# Altium integrated library Analog Devices Interface and Isolation Digital Isolators.IntLib: 645 symbols (part 9 of 36)
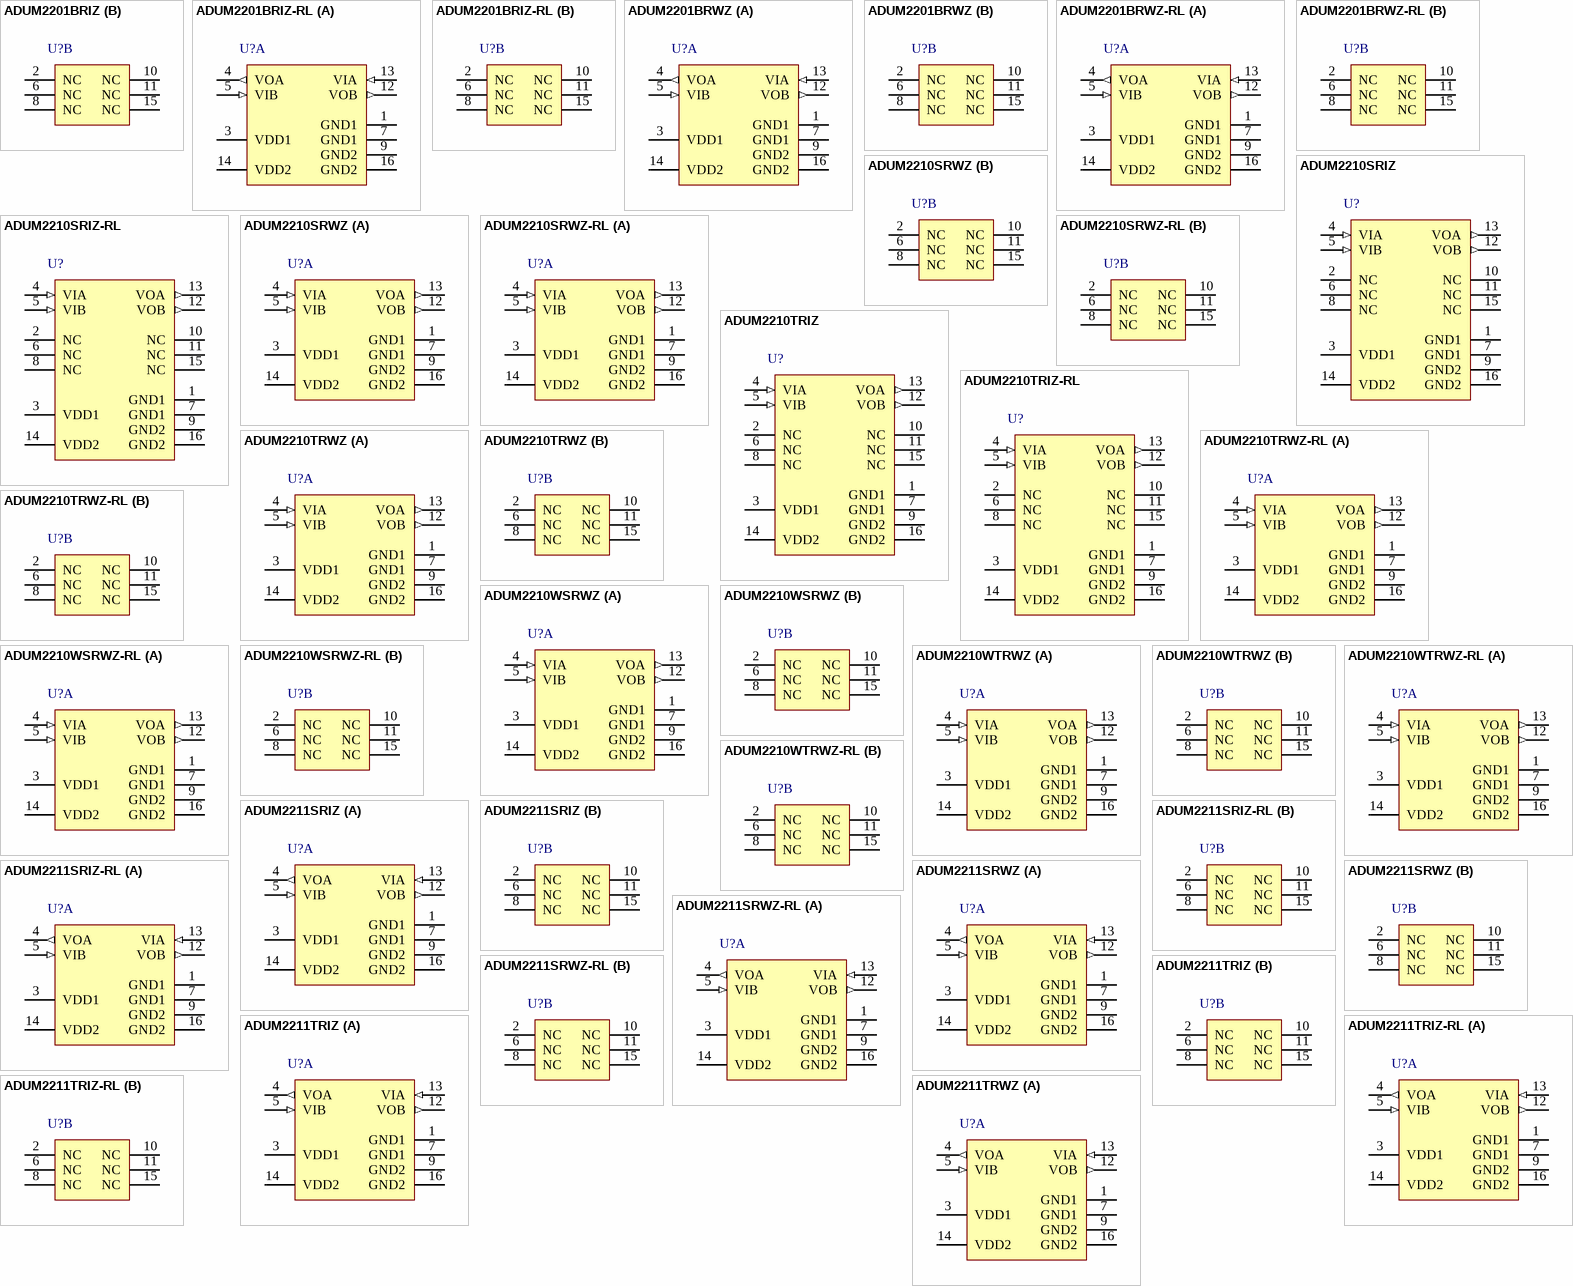
[diagram p28: symbols ADUM2201BRIZ to ADUM2211TRWZ]

## ADUM2201BRIZ-RL
designator U?
Dual Channel Digital Isolator, 5 KV rms Insulation Rating, 10 Mbps Data Rate, 50 ns Delay, Industrial, 16-pin SOIC (RI-16-2), Reel; Manufacturer: Analog Devices; PartNumber: ADUM2201BRIZ-RL; Insulation Rating (kVrms): 5; Max Data Rate: 10Mbps; DatasheetVersion: Rev. D; PackageVersion: 11-15-2011-A, 11/2012; PackageReference: RI-16-2; PackageDescription: 16-Pin Standard Small Outline Package, with Increased Creepage, Body 12.75 x 7.5 mm, Pitch 1.27 mm; Supplier 1: Digi-Key; Supplier Part Number 1: ADUM2201BRIZ-RL-ND; Max Operating Temp (degreesC): 105; Mounting Technology: Surface Mount; Code_JEDEC: MS-013-AC; ComponentLink1Description: Manufacturer URL; ComponentLink1URL: http://www.analog.com/en/index.html; ComponentLink2Description: Datasheet; ComponentLink2URL: http://www.analog.com/static/imported-files/data_sheets/ADuM2200_2201.pdf; ComponentLink3Description: Package Specification; ComponentLink3URL: http://www.analog.com/static/imported-files/data_sheets/ADuM2280_2281_2285_2286.pdf; ComponentLink4Description: URL Link1; ComponentLink4URL: Product URL:http://www.analog.com/en/interface-isolation/digital-isolators/adum2201/products/product.html
footprint ADI-RI-16-2_N (SOIC, 16-Leads, Body 12.75x7.5mm, Pitch 1.27mm, IPC Medium Density)
footprint ADI-RI-16-2_L (SOIC, 16-Leads, Body 12.75x7.5mm, Pitch 1.27mm, IPC High Density)
footprint ADI-RI-16-2_M (SOIC, 16-Leads, Body 12.75x7.5mm, Pitch 1.27mm, IPC Low Density)
part A pins: 1 GND1 (power) "Ground 1. Ground reference for Isolator Side 1.", 3 VDD1 (power) "Supply Voltage for Isolator Side 1.", 4 VOA (out) "Logic Output A.", 5 VIB (in) "Logic Input B.", 7 GND1 (power) "Ground 1. Ground reference for Isolator Side 1.", 9 GND2 (power) "Ground 2. Ground reference for Isolator Side 2.", 12 VOB (out) "Logic Output B.", 13 VIA (in) "Logic Input A.", 14 VDD2 (power) "Supply Voltage for Isolator Side 2.", 16 GND2 (power) "Ground 2. Ground reference for Isolator Side 2."
part B pins: 2 NC "No internal connection.", 6 NC "No internal connection.", 8 NC "No internal connection.", 10 NC "No internal connection.", 11 NC "No internal connection.", 15 NC "No internal connection."

## ADUM2201BRWZ
designator U?
Dual Channel Digital Isolator, 5 KV rms Insulation Rating, 10 Mbps Data Rate, 50 ns Delay, Industrial, 16-pin SOIC (RW-16), Tube; Manufacturer: Analog Devices; PartNumber: ADUM2201BRWZ; Insulation Rating (kVrms): 5; Max Data Rate: 10Mbps; DatasheetVersion: Rev. D; PackageVersion: 032707-B, 03/2007; PackageReference: RW-16; PackageDescription: 16-Pin Standard Small Outline Package, Body 10.3 x 7.5 mm, Pitch 1.27 mm; Supplier 1: Digi-Key; Supplier Part Number 1: ADUM2201BRWZ-ND; Max Operating Temp (degreesC): 105; Mounting Technology: Surface Mount; Code_JEDEC: MS-013-AA; ComponentLink1Description: Manufacturer URL; ComponentLink1URL: http://www.analog.com/en/index.html; ComponentLink2Description: Datasheet; ComponentLink2URL: http://www.analog.com/static/imported-files/data_sheets/ADuM2200_2201.pdf; ComponentLink3Description: Package Specification; ComponentLink3URL: http://www.analog.com/static/imported-files/packages/PKG_PDF/SOIC_WIDE%20%28RW%29/RW_16.pdf; ComponentLink4Description: URL Link1; ComponentLink4URL: Product URL:http://www.analog.com/en/interface-isolation/digital-isolators/adum2201/products/product.html
footprint ADI-RW-16_N (SOIC, 16-Leads, Body 10.3x7.5mm, Pitch 1.27mm, IPC Medium Density)
footprint ADI-RW-16_L (SOIC, 16-Leads, Body 10.3x7.5mm, Pitch 1.27mm, IPC High Density)
footprint ADI-RW-16_M (SOIC, 16-Leads, Body 10.3x7.5mm, Pitch 1.27mm, IPC Low Density)
part A pins: 1 GND1 (power) "Ground 1. Ground reference for Isolator Side 1.", 3 VDD1 (power) "Supply Voltage for Isolator Side 1.", 4 VOA (out) "Logic Output A.", 5 VIB (in) "Logic Input B.", 7 GND1 (power) "Ground 1. Ground reference for Isolator Side 1.", 9 GND2 (power) "Ground 2. Ground reference for Isolator Side 2.", 12 VOB (out) "Logic Output B.", 13 VIA (in) "Logic Input A.", 14 VDD2 (power) "Supply Voltage for Isolator Side 2.", 16 GND2 (power) "Ground 2. Ground reference for Isolator Side 2."
part B pins: 2 NC "No internal connection.", 6 NC "No internal connection.", 8 NC "No internal connection.", 10 NC "No internal connection.", 11 NC "No internal connection.", 15 NC "No internal connection."

## ADUM2201BRWZ-RL
designator U?
Dual Channel Digital Isolator, 5 KV rms Insulation Rating, 10 Mbps Data Rate, 50 ns Delay, Industrial, 16-pin SOIC (RW-16), Reel; Manufacturer: Analog Devices; PartNumber: ADUM2201BRWZ-RL; Insulation Rating (kVrms): 5; Max Data Rate: 10Mbps; DatasheetVersion: Rev. D; PackageVersion: 032707-B, 03/2007; PackageReference: RW-16; PackageDescription: 16-Pin Standard Small Outline Package, Body 10.3 x 7.5 mm, Pitch 1.27 mm; Supplier 1: Digi-Key; Supplier Part Number 1: ADUM2201BRWZ-RL-ND; Max Operating Temp (degreesC): 105; Mounting Technology: Surface Mount; Code_JEDEC: MS-013-AA; ComponentLink1Description: Manufacturer URL; ComponentLink1URL: http://www.analog.com/en/index.html; ComponentLink2Description: Datasheet; ComponentLink2URL: http://www.analog.com/static/imported-files/data_sheets/ADuM2200_2201.pdf; ComponentLink3Description: Package Specification; ComponentLink3URL: http://www.analog.com/static/imported-files/packages/PKG_PDF/SOIC_WIDE%20%28RW%29/RW_16.pdf; ComponentLink4Description: URL Link1; ComponentLink4URL: Product URL:http://www.analog.com/en/interface-isolation/digital-isolators/adum2201/products/product.html
footprint ADI-RW-16_N (SOIC, 16-Leads, Body 10.3x7.5mm, Pitch 1.27mm, IPC Medium Density)
footprint ADI-RW-16_L (SOIC, 16-Leads, Body 10.3x7.5mm, Pitch 1.27mm, IPC High Density)
footprint ADI-RW-16_M (SOIC, 16-Leads, Body 10.3x7.5mm, Pitch 1.27mm, IPC Low Density)
part A pins: 1 GND1 (power) "Ground 1. Ground reference for Isolator Side 1.", 3 VDD1 (power) "Supply Voltage for Isolator Side 1.", 4 VOA (out) "Logic Output A.", 5 VIB (in) "Logic Input B.", 7 GND1 (power) "Ground 1. Ground reference for Isolator Side 1.", 9 GND2 (power) "Ground 2. Ground reference for Isolator Side 2.", 12 VOB (out) "Logic Output B.", 13 VIA (in) "Logic Input A.", 14 VDD2 (power) "Supply Voltage for Isolator Side 2.", 16 GND2 (power) "Ground 2. Ground reference for Isolator Side 2."
part B pins: 2 NC "No internal connection.", 6 NC "No internal connection.", 8 NC "No internal connection.", 10 NC "No internal connection.", 11 NC "No internal connection.", 15 NC "No internal connection."

## ADUM2210SRIZ
designator U?
Dual Channel Digital Isolator, 5 KV rms Insulation Rating, 1 Mbps Data Rate, 150 ns Delay, Military, 16-pin SOIC (RI-16-2), Tube; Manufacturer: Analog Devices; PartNumber: ADUM2210SRIZ; Insulation Rating (kVrms): 5; Max Data Rate: 1Mbps; DatasheetVersion: Rev. D; PackageVersion: 11-15-2011-A, 11/2012; PackageReference: RI-16-2; PackageDescription: 16-Pin Standard Small Outline Package, with Increased Creepage, Body 12.75 x 7.5 mm, Pitch 1.27 mm; Supplier 1: Digi-Key; Supplier Part Number 1: ADUM2210SRIZ-ND; Max Operating Temp (degreesC): 125; Mounting Technology: Surface Mount; Code_JEDEC: MS-013-AC; ComponentLink1Description: Manufacturer URL; ComponentLink1URL: http://www.analog.com/en/index.html; ComponentLink2Description: Datasheet; ComponentLink2URL: http://www.analog.com/static/imported-files/data_sheets/ADuM2210_2211.pdf; ComponentLink3Description: Package Specification; ComponentLink3URL: http://www.analog.com/static/imported-files/data_sheets/ADuM2280_2281_2285_2286.pdf; ComponentLink4Description: URL Link1; ComponentLink4URL: Product URL:http://www.analog.com/en/interface-isolation/digital-isolators/adum2210/products/product.html
footprint ADI-RI-16-2_N (SOIC, 16-Leads, Body 12.75x7.5mm, Pitch 1.27mm, IPC Medium Density)
footprint ADI-RI-16-2_L (SOIC, 16-Leads, Body 12.75x7.5mm, Pitch 1.27mm, IPC High Density)
footprint ADI-RI-16-2_M (SOIC, 16-Leads, Body 12.75x7.5mm, Pitch 1.27mm, IPC Low Density)
pins: 1 GND1 (power) "Ground 1. Ground reference for Isolator Side 1.", 2 NC "No internal connection.", 3 VDD1 (power) "Supply Voltage for Isolator Side 1, 3.0 V to 5.5 V.", 4 VIA (in) "Logic Input A.", 5 VIB (in) "Logic Input B.", 6 NC "No internal connection.", 7 GND1 (power) "Ground 1. Ground reference for Isolator Side 1.", 8 NC "No internal connection.", 9 GND2 (power) "Ground 2. Ground reference for Isolator Side 2.", 10 NC "No internal connection.", 11 NC "No internal connection.", 12 VOB (out) "Logic Output B.", 13 VOA (out) "Logic Output A.", 14 VDD2 (power) "Supply Voltage for Isolator Side 2, 3.0 V to 5.5 V.", 15 NC "No internal connection.", 16 GND2 (power) "Ground 2. Ground reference for Isolator Side 2."

## ADUM2210SRIZ-RL
designator U?
Dual Channel Digital Isolator, 5 KV rms Insulation Rating, 1 Mbps Data Rate, 150 ns Delay, Military, 16-pin SOIC (RI-16-2), Reel; Manufacturer: Analog Devices; PartNumber: ADUM2210SRIZ-RL; Insulation Rating (kVrms): 5; Max Data Rate: 1Mbps; DatasheetVersion: Rev. D; PackageVersion: 11-15-2011-A, 11/2012; PackageReference: RI-16-2; PackageDescription: 16-Pin Standard Small Outline Package, with Increased Creepage, Body 12.75 x 7.5 mm, Pitch 1.27 mm; Supplier 1: Digi-Key; Supplier Part Number 1: ADUM2210SRIZ-RL-ND; Max Operating Temp (degreesC): 125; Mounting Technology: Surface Mount; Code_JEDEC: MS-013-AC; ComponentLink1Description: Manufacturer URL; ComponentLink1URL: http://www.analog.com/en/index.html; ComponentLink2Description: Datasheet; ComponentLink2URL: http://www.analog.com/static/imported-files/data_sheets/ADuM2210_2211.pdf; ComponentLink3Description: Package Specification; ComponentLink3URL: http://www.analog.com/static/imported-files/data_sheets/ADuM2280_2281_2285_2286.pdf; ComponentLink4Description: URL Link1; ComponentLink4URL: Product URL:http://www.analog.com/en/interface-isolation/digital-isolators/adum2210/products/product.html
footprint ADI-RI-16-2_N (SOIC, 16-Leads, Body 12.75x7.5mm, Pitch 1.27mm, IPC Medium Density)
footprint ADI-RI-16-2_L (SOIC, 16-Leads, Body 12.75x7.5mm, Pitch 1.27mm, IPC High Density)
footprint ADI-RI-16-2_M (SOIC, 16-Leads, Body 12.75x7.5mm, Pitch 1.27mm, IPC Low Density)
pins: 1 GND1 (power) "Ground 1. Ground reference for Isolator Side 1.", 2 NC "No internal connection.", 3 VDD1 (power) "Supply Voltage for Isolator Side 1, 3.0 V to 5.5 V.", 4 VIA (in) "Logic Input A.", 5 VIB (in) "Logic Input B.", 6 NC "No internal connection.", 7 GND1 (power) "Ground 1. Ground reference for Isolator Side 1.", 8 NC "No internal connection.", 9 GND2 (power) "Ground 2. Ground reference for Isolator Side 2.", 10 NC "No internal connection.", 11 NC "No internal connection.", 12 VOB (out) "Logic Output B.", 13 VOA (out) "Logic Output A.", 14 VDD2 (power) "Supply Voltage for Isolator Side 2, 3.0 V to 5.5 V.", 15 NC "No internal connection.", 16 GND2 (power) "Ground 2. Ground reference for Isolator Side 2."

## ADUM2210SRWZ
designator U?
Dual Channel Digital Isolator, 5 KV rms Insulation Rating, 1 Mbps Data Rate, 150 ns Delay, Industrial, 16-pin SOIC (RW-16), Tube; Manufacturer: Analog Devices; PartNumber: ADUM2210SRWZ; Insulation Rating (kVrms): 5; Max Data Rate: 1Mbps; DatasheetVersion: Rev. D; PackageVersion: 032707-B, 03/2007; PackageReference: RW-16; PackageDescription: 16-Pin Standard Small Outline Package, Body 10.3 x 7.5 mm, Pitch 1.27 mm; Supplier 1: Digi-Key; Supplier Part Number 1: ADUM2210SRWZ-ND; Max Operating Temp (degreesC): 125; Mounting Technology: Surface Mount; Code_JEDEC: MS-013-AA; ComponentLink1Description: Manufacturer URL; ComponentLink1URL: http://www.analog.com/en/index.html; ComponentLink2Description: Datasheet; ComponentLink2URL: http://www.analog.com/static/imported-files/data_sheets/ADuM2210_2211.pdf; ComponentLink3Description: Package Specification; ComponentLink3URL: http://www.analog.com/static/imported-files/packages/PKG_PDF/SOIC_WIDE%20%28RW%29/RW_16.pdf; ComponentLink4Description: URL Link1; ComponentLink4URL: Product URL:http://www.analog.com/en/interface-isolation/digital-isolators/adum2210/products/product.html
footprint ADI-RW-16_N (SOIC, 16-Leads, Body 10.3x7.5mm, Pitch 1.27mm, IPC Medium Density)
footprint ADI-RW-16_L (SOIC, 16-Leads, Body 10.3x7.5mm, Pitch 1.27mm, IPC High Density)
footprint ADI-RW-16_M (SOIC, 16-Leads, Body 10.3x7.5mm, Pitch 1.27mm, IPC Low Density)
part A pins: 1 GND1 (power) "Ground 1. Ground reference for Isolator Side 1.", 3 VDD1 (power) "Supply Voltage for Isolator Side 1, 3.0 V to 5.5 V.", 4 VIA (in) "Logic Input A.", 5 VIB (in) "Logic Input B.", 7 GND1 (power) "Ground 1. Ground reference for Isolator Side 1.", 9 GND2 (power) "Ground 2. Ground reference for Isolator Side 2.", 12 VOB (out) "Logic Output B.", 13 VOA (out) "Logic Output A.", 14 VDD2 (power) "Supply Voltage for Isolator Side 2, 3.0 V to 5.5 V.", 16 GND2 (power) "Ground 2. Ground reference for Isolator Side 2."
part B pins: 2 NC "No internal connection.", 6 NC "No internal connection.", 8 NC "No internal connection.", 10 NC "No internal connection.", 11 NC "No internal connection.", 15 NC "No internal connection."

## ADUM2210SRWZ-RL
designator U?
Dual Channel Digital Isolator, 5 KV rms Insulation Rating, 1 Mbps Data Rate, 150 ns Delay, Industrial, 16-pin SOIC (RW-16), Reel; Manufacturer: Analog Devices; PartNumber: ADUM2210SRWZ-RL; Insulation Rating (kVrms): 5; Max Data Rate: 1Mbps; DatasheetVersion: Rev. D; PackageVersion: 032707-B, 03/2007; PackageReference: RW-16; PackageDescription: 16-Pin Standard Small Outline Package, Body 10.3 x 7.5 mm, Pitch 1.27 mm; Supplier 1: Digi-Key; Supplier Part Number 1: ADUM2210SRWZ-RL-ND; Max Operating Temp (degreesC): 125; Mounting Technology: Surface Mount; Code_JEDEC: MS-013-AA; ComponentLink1Description: Manufacturer URL; ComponentLink1URL: http://www.analog.com/en/index.html; ComponentLink2Description: Datasheet; ComponentLink2URL: http://www.analog.com/static/imported-files/data_sheets/ADuM2210_2211.pdf; ComponentLink3Description: Package Specification; ComponentLink3URL: http://www.analog.com/static/imported-files/packages/PKG_PDF/SOIC_WIDE%20%28RW%29/RW_16.pdf; ComponentLink4Description: URL Link1; ComponentLink4URL: Product URL:http://www.analog.com/en/interface-isolation/digital-isolators/adum2210/products/product.html
footprint ADI-RW-16_N (SOIC, 16-Leads, Body 10.3x7.5mm, Pitch 1.27mm, IPC Medium Density)
footprint ADI-RW-16_L (SOIC, 16-Leads, Body 10.3x7.5mm, Pitch 1.27mm, IPC High Density)
footprint ADI-RW-16_M (SOIC, 16-Leads, Body 10.3x7.5mm, Pitch 1.27mm, IPC Low Density)
part A pins: 1 GND1 (power) "Ground 1. Ground reference for Isolator Side 1.", 3 VDD1 (power) "Supply Voltage for Isolator Side 1, 3.0 V to 5.5 V.", 4 VIA (in) "Logic Input A.", 5 VIB (in) "Logic Input B.", 7 GND1 (power) "Ground 1. Ground reference for Isolator Side 1.", 9 GND2 (power) "Ground 2. Ground reference for Isolator Side 2.", 12 VOB (out) "Logic Output B.", 13 VOA (out) "Logic Output A.", 14 VDD2 (power) "Supply Voltage for Isolator Side 2, 3.0 V to 5.5 V.", 16 GND2 (power) "Ground 2. Ground reference for Isolator Side 2."
part B pins: 2 NC "No internal connection.", 6 NC "No internal connection.", 8 NC "No internal connection.", 10 NC "No internal connection.", 11 NC "No internal connection.", 15 NC "No internal connection."

## ADUM2210TRIZ
designator U?
Dual Channel Digital Isolator, 5 KV rms Insulation Rating, 10 Mbps Data Rate, 50 ns Delay, Military, 16-pin SOIC (RI-16-2), Tube; Manufacturer: Analog Devices; PartNumber: ADUM2210TRIZ; Insulation Rating (kVrms): 5; Max Data Rate: 10Mbps; DatasheetVersion: Rev. D; PackageVersion: 11-15-2011-A, 11/2012; PackageReference: RI-16-2; PackageDescription: 16-Pin Standard Small Outline Package, with Increased Creepage, Body 12.75 x 7.5 mm, Pitch 1.27 mm; Supplier 1: Digi-Key; Supplier Part Number 1: ADUM2210TRIZ-ND; Max Operating Temp (degreesC): 125; Mounting Technology: Surface Mount; Code_JEDEC: MS-013-AC; ComponentLink1Description: Manufacturer URL; ComponentLink1URL: http://www.analog.com/en/index.html; ComponentLink2Description: Datasheet; ComponentLink2URL: http://www.analog.com/static/imported-files/data_sheets/ADuM2210_2211.pdf; ComponentLink3Description: Package Specification; ComponentLink3URL: http://www.analog.com/static/imported-files/data_sheets/ADuM2280_2281_2285_2286.pdf; ComponentLink4Description: URL Link1; ComponentLink4URL: Product URL:http://www.analog.com/en/interface-isolation/digital-isolators/adum2210/products/product.html
footprint ADI-RI-16-2_N (SOIC, 16-Leads, Body 12.75x7.5mm, Pitch 1.27mm, IPC Medium Density)
footprint ADI-RI-16-2_L (SOIC, 16-Leads, Body 12.75x7.5mm, Pitch 1.27mm, IPC High Density)
footprint ADI-RI-16-2_M (SOIC, 16-Leads, Body 12.75x7.5mm, Pitch 1.27mm, IPC Low Density)
pins: 1 GND1 (power) "Ground 1. Ground reference for Isolator Side 1.", 2 NC "No internal connection.", 3 VDD1 (power) "Supply Voltage for Isolator Side 1, 3.0 V to 5.5 V.", 4 VIA (in) "Logic Input A.", 5 VIB (in) "Logic Input B.", 6 NC "No internal connection.", 7 GND1 (power) "Ground 1. Ground reference for Isolator Side 1.", 8 NC "No internal connection.", 9 GND2 (power) "Ground 2. Ground reference for Isolator Side 2.", 10 NC "No internal connection.", 11 NC "No internal connection.", 12 VOB (out) "Logic Output B.", 13 VOA (out) "Logic Output A.", 14 VDD2 (power) "Supply Voltage for Isolator Side 2, 3.0 V to 5.5 V.", 15 NC "No internal connection.", 16 GND2 (power) "Ground 2. Ground reference for Isolator Side 2."

## ADUM2210TRIZ-RL
designator U?
Dual Channel Digital Isolator, 5 KV rms Insulation Rating, 10 Mbps Data Rate, 50 ns Delay, Military, 16-pin SOIC (RI-16-2), Reel; Manufacturer: Analog Devices; PartNumber: ADUM2210TRIZ-RL; Insulation Rating (kVrms): 5; Max Data Rate: 10Mbps; DatasheetVersion: Rev. D; PackageVersion: 11-15-2011-A, 11/2012; PackageReference: RI-16-2; PackageDescription: 16-Pin Standard Small Outline Package, with Increased Creepage, Body 12.75 x 7.5 mm, Pitch 1.27 mm; Supplier 1: Digi-Key; Supplier Part Number 1: ADUM2210TRIZ-RL-ND; Max Operating Temp (degreesC): 125; Mounting Technology: Surface Mount; Code_JEDEC: MS-013-AC; ComponentLink1Description: Manufacturer URL; ComponentLink1URL: http://www.analog.com/en/index.html; ComponentLink2Description: Datasheet; ComponentLink2URL: http://www.analog.com/static/imported-files/data_sheets/ADuM2210_2211.pdf; ComponentLink3Description: Package Specification; ComponentLink3URL: http://www.analog.com/static/imported-files/data_sheets/ADuM2280_2281_2285_2286.pdf; ComponentLink4Description: URL Link1; ComponentLink4URL: Product URL:http://www.analog.com/en/interface-isolation/digital-isolators/adum2210/products/product.html
footprint ADI-RI-16-2_N (SOIC, 16-Leads, Body 12.75x7.5mm, Pitch 1.27mm, IPC Medium Density)
footprint ADI-RI-16-2_L (SOIC, 16-Leads, Body 12.75x7.5mm, Pitch 1.27mm, IPC High Density)
footprint ADI-RI-16-2_M (SOIC, 16-Leads, Body 12.75x7.5mm, Pitch 1.27mm, IPC Low Density)
pins: 1 GND1 (power) "Ground 1. Ground reference for Isolator Side 1.", 2 NC "No internal connection.", 3 VDD1 (power) "Supply Voltage for Isolator Side 1, 3.0 V to 5.5 V.", 4 VIA (in) "Logic Input A.", 5 VIB (in) "Logic Input B.", 6 NC "No internal connection.", 7 GND1 (power) "Ground 1. Ground reference for Isolator Side 1.", 8 NC "No internal connection.", 9 GND2 (power) "Ground 2. Ground reference for Isolator Side 2.", 10 NC "No internal connection.", 11 NC "No internal connection.", 12 VOB (out) "Logic Output B.", 13 VOA (out) "Logic Output A.", 14 VDD2 (power) "Supply Voltage for Isolator Side 2, 3.0 V to 5.5 V.", 15 NC "No internal connection.", 16 GND2 (power) "Ground 2. Ground reference for Isolator Side 2."

## ADUM2210TRWZ
designator U?
Dual Channel Digital Isolator, 5 KV rms Insulation Rating, 10 Mbps Data Rate, 50 ns Delay, Industrial, 16-pin SOIC (RW-16), Tube; Manufacturer: Analog Devices; PartNumber: ADUM2210TRWZ; Insulation Rating (kVrms): 5; Max Data Rate: 10Mbps; DatasheetVersion: Rev. D; PackageVersion: 032707-B, 03/2007; PackageReference: RW-16; PackageDescription: 16-Pin Standard Small Outline Package, Body 10.3 x 7.5 mm, Pitch 1.27 mm; Supplier 1: Digi-Key; Supplier Part Number 1: ADUM2210TRWZ-ND; Max Operating Temp (degreesC): 125; Mounting Technology: Surface Mount; Code_JEDEC: MS-013-AA; ComponentLink1Description: Manufacturer URL; ComponentLink1URL: http://www.analog.com/en/index.html; ComponentLink2Description: Datasheet; ComponentLink2URL: http://www.analog.com/static/imported-files/data_sheets/ADuM2210_2211.pdf; ComponentLink3Description: Package Specification; ComponentLink3URL: http://www.analog.com/static/imported-files/packages/PKG_PDF/SOIC_WIDE%20%28RW%29/RW_16.pdf; ComponentLink4Description: URL Link1; ComponentLink4URL: Product URL:http://www.analog.com/en/interface-isolation/digital-isolators/adum2210/products/product.html
footprint ADI-RW-16_N (SOIC, 16-Leads, Body 10.3x7.5mm, Pitch 1.27mm, IPC Medium Density)
footprint ADI-RW-16_L (SOIC, 16-Leads, Body 10.3x7.5mm, Pitch 1.27mm, IPC High Density)
footprint ADI-RW-16_M (SOIC, 16-Leads, Body 10.3x7.5mm, Pitch 1.27mm, IPC Low Density)
part A pins: 1 GND1 (power) "Ground 1. Ground reference for Isolator Side 1.", 3 VDD1 (power) "Supply Voltage for Isolator Side 1, 3.0 V to 5.5 V.", 4 VIA (in) "Logic Input A.", 5 VIB (in) "Logic Input B.", 7 GND1 (power) "Ground 1. Ground reference for Isolator Side 1.", 9 GND2 (power) "Ground 2. Ground reference for Isolator Side 2.", 12 VOB (out) "Logic Output B.", 13 VOA (out) "Logic Output A.", 14 VDD2 (power) "Supply Voltage for Isolator Side 2, 3.0 V to 5.5 V.", 16 GND2 (power) "Ground 2. Ground reference for Isolator Side 2."
part B pins: 2 NC "No internal connection.", 6 NC "No internal connection.", 8 NC "No internal connection.", 10 NC "No internal connection.", 11 NC "No internal connection.", 15 NC "No internal connection."

## ADUM2210TRWZ-RL
designator U?
Dual Channel Digital Isolator, 5 KV rms Insulation Rating, 10 Mbps Data Rate, 50 ns Delay, Industrial, 16-pin SOIC (RW-16), Reel; Manufacturer: Analog Devices; PartNumber: ADUM2210TRWZ-RL; Insulation Rating (kVrms): 5; Max Data Rate: 10Mbps; DatasheetVersion: Rev. D; PackageVersion: 032707-B, 03/2007; PackageReference: RW-16; PackageDescription: 16-Pin Standard Small Outline Package, Body 10.3 x 7.5 mm, Pitch 1.27 mm; Supplier 1: Digi-Key; Supplier Part Number 1: ADUM2210TRWZ-RL-ND; Max Operating Temp (degreesC): 125; Mounting Technology: Surface Mount; Code_JEDEC: MS-013-AA; ComponentLink1Description: Manufacturer URL; ComponentLink1URL: http://www.analog.com/en/index.html; ComponentLink2Description: Datasheet; ComponentLink2URL: http://www.analog.com/static/imported-files/data_sheets/ADuM2210_2211.pdf; ComponentLink3Description: Package Specification; ComponentLink3URL: http://www.analog.com/static/imported-files/packages/PKG_PDF/SOIC_WIDE%20%28RW%29/RW_16.pdf; ComponentLink4Description: URL Link1; ComponentLink4URL: Product URL:http://www.analog.com/en/interface-isolation/digital-isolators/adum2210/products/product.html
footprint ADI-RW-16_N (SOIC, 16-Leads, Body 10.3x7.5mm, Pitch 1.27mm, IPC Medium Density)
footprint ADI-RW-16_L (SOIC, 16-Leads, Body 10.3x7.5mm, Pitch 1.27mm, IPC High Density)
footprint ADI-RW-16_M (SOIC, 16-Leads, Body 10.3x7.5mm, Pitch 1.27mm, IPC Low Density)
part A pins: 1 GND1 (power) "Ground 1. Ground reference for Isolator Side 1.", 3 VDD1 (power) "Supply Voltage for Isolator Side 1, 3.0 V to 5.5 V.", 4 VIA (in) "Logic Input A.", 5 VIB (in) "Logic Input B.", 7 GND1 (power) "Ground 1. Ground reference for Isolator Side 1.", 9 GND2 (power) "Ground 2. Ground reference for Isolator Side 2.", 12 VOB (out) "Logic Output B.", 13 VOA (out) "Logic Output A.", 14 VDD2 (power) "Supply Voltage for Isolator Side 2, 3.0 V to 5.5 V.", 16 GND2 (power) "Ground 2. Ground reference for Isolator Side 2."
part B pins: 2 NC "No internal connection.", 6 NC "No internal connection.", 8 NC "No internal connection.", 10 NC "No internal connection.", 11 NC "No internal connection.", 15 NC "No internal connection."

## ADUM2210WSRWZ
designator U?
Dual Channel Digital Isolator, 5 KV rms Insulation Rating, 1 Mbps Data Rate, 150 ns Delay, Industrial, 16-pin SOIC (RW-16), Tube; Manufacturer: Analog Devices; PartNumber: ADUM2210WSRWZ; Automotive Qualified: Yes; Insulation Rating (kVrms): 5; Max Data Rate: 1Mbps; DatasheetVersion: Rev. D; PackageVersion: 032707-B, 03/2007; PackageReference: RW-16; PackageDescription: 16-Pin Standard Small Outline Package, Body 10.3 x 7.5 mm, Pitch 1.27 mm; Supplier 1: Digi-Key; Supplier Part Number 1: ADUM2210WSRWZ-ND; Max Operating Temp (degreesC): 125; Mounting Technology: Surface Mount; Code_JEDEC: MS-013-AA; ComponentLink1Description: Manufacturer URL; ComponentLink1URL: http://www.analog.com/en/index.html; ComponentLink2Description: Datasheet; ComponentLink2URL: http://www.analog.com/static/imported-files/data_sheets/ADuM2210_2211.pdf; ComponentLink3Description: Package Specification; ComponentLink3URL: http://www.analog.com/static/imported-files/packages/PKG_PDF/SOIC_WIDE%20%28RW%29/RW_16.pdf; ComponentLink4Description: URL Link1; ComponentLink4URL: Product URL:http://www.analog.com/en/interface-isolation/digital-isolators/adum2210/products/product.html
footprint ADI-RW-16_N (SOIC, 16-Leads, Body 10.3x7.5mm, Pitch 1.27mm, IPC Medium Density)
footprint ADI-RW-16_L (SOIC, 16-Leads, Body 10.3x7.5mm, Pitch 1.27mm, IPC High Density)
footprint ADI-RW-16_M (SOIC, 16-Leads, Body 10.3x7.5mm, Pitch 1.27mm, IPC Low Density)
part A pins: 1 GND1 (power) "Ground 1. Ground reference for Isolator Side 1.", 3 VDD1 (power) "Supply Voltage for Isolator Side 1, 3.0 V to 5.5 V.", 4 VIA (in) "Logic Input A.", 5 VIB (in) "Logic Input B.", 7 GND1 (power) "Ground 1. Ground reference for Isolator Side 1.", 9 GND2 (power) "Ground 2. Ground reference for Isolator Side 2.", 12 VOB (out) "Logic Output B.", 13 VOA (out) "Logic Output A.", 14 VDD2 (power) "Supply Voltage for Isolator Side 2, 3.0 V to 5.5 V.", 16 GND2 (power) "Ground 2. Ground reference for Isolator Side 2."
part B pins: 2 NC "No internal connection.", 6 NC "No internal connection.", 8 NC "No internal connection.", 10 NC "No internal connection.", 11 NC "No internal connection.", 15 NC "No internal connection."

## ADUM2210WSRWZ-RL
designator U?
Dual Channel Digital Isolator, 5 KV rms Insulation Rating, 1 Mbps Data Rate, 150 ns Delay, Industrial, 16-pin SOIC (RW-16), Reel; Manufacturer: Analog Devices; PartNumber: ADUM2210WSRWZ-RL; Automotive Qualified: Yes; Insulation Rating (kVrms): 5; Max Data Rate: 1Mbps; DatasheetVersion: Rev. D; PackageVersion: 032707-B, 03/2007; PackageReference: RW-16; PackageDescription: 16-Pin Standard Small Outline Package, Body 10.3 x 7.5 mm, Pitch 1.27 mm; Supplier 1: Digi-Key; Supplier Part Number 1: ADUM2210WSRWZ-RL-ND; Max Operating Temp (degreesC): 125; Mounting Technology: Surface Mount; Code_JEDEC: MS-013-AA; ComponentLink1Description: Manufacturer URL; ComponentLink1URL: http://www.analog.com/en/index.html; ComponentLink2Description: Datasheet; ComponentLink2URL: http://www.analog.com/static/imported-files/data_sheets/ADuM2210_2211.pdf; ComponentLink3Description: Package Specification; ComponentLink3URL: http://www.analog.com/static/imported-files/packages/PKG_PDF/SOIC_WIDE%20%28RW%29/RW_16.pdf; ComponentLink4Description: URL Link1; ComponentLink4URL: Product URL:http://www.analog.com/en/interface-isolation/digital-isolators/adum2210/products/product.html
footprint ADI-RW-16_N (SOIC, 16-Leads, Body 10.3x7.5mm, Pitch 1.27mm, IPC Medium Density)
footprint ADI-RW-16_L (SOIC, 16-Leads, Body 10.3x7.5mm, Pitch 1.27mm, IPC High Density)
footprint ADI-RW-16_M (SOIC, 16-Leads, Body 10.3x7.5mm, Pitch 1.27mm, IPC Low Density)
part A pins: 1 GND1 (power) "Ground 1. Ground reference for Isolator Side 1.", 3 VDD1 (power) "Supply Voltage for Isolator Side 1, 3.0 V to 5.5 V.", 4 VIA (in) "Logic Input A.", 5 VIB (in) "Logic Input B.", 7 GND1 (power) "Ground 1. Ground reference for Isolator Side 1.", 9 GND2 (power) "Ground 2. Ground reference for Isolator Side 2.", 12 VOB (out) "Logic Output B.", 13 VOA (out) "Logic Output A.", 14 VDD2 (power) "Supply Voltage for Isolator Side 2, 3.0 V to 5.5 V.", 16 GND2 (power) "Ground 2. Ground reference for Isolator Side 2."
part B pins: 2 NC "No internal connection.", 6 NC "No internal connection.", 8 NC "No internal connection.", 10 NC "No internal connection.", 11 NC "No internal connection.", 15 NC "No internal connection."

## ADUM2210WTRWZ
designator U?
Dual Channel Digital Isolator, 5 KV rms Insulation Rating, 10 Mbps Data Rate, 50 ns Delay, Industrial, 16-pin SOIC (RW-16), Tube; Manufacturer: Analog Devices; PartNumber: ADUM2210WTRWZ; Automotive Qualified: Yes; Insulation Rating (kVrms): 5; Max Data Rate: 10Mbps; DatasheetVersion: Rev. D; PackageVersion: 032707-B, 03/2007; PackageReference: RW-16; PackageDescription: 16-Pin Standard Small Outline Package, Body 10.3 x 7.5 mm, Pitch 1.27 mm; Supplier 1: Digi-Key; Supplier Part Number 1: ADUM2210WTRWZ-ND; Max Operating Temp (degreesC): 125; Mounting Technology: Surface Mount; Code_JEDEC: MS-013-AA; ComponentLink1Description: Manufacturer URL; ComponentLink1URL: http://www.analog.com/en/index.html; ComponentLink2Description: Datasheet; ComponentLink2URL: http://www.analog.com/static/imported-files/data_sheets/ADuM2210_2211.pdf; ComponentLink3Description: Package Specification; ComponentLink3URL: http://www.analog.com/static/imported-files/packages/PKG_PDF/SOIC_WIDE%20%28RW%29/RW_16.pdf; ComponentLink4Description: URL Link1; ComponentLink4URL: Product URL:http://www.analog.com/en/interface-isolation/digital-isolators/adum2210/products/product.html
footprint ADI-RW-16_N (SOIC, 16-Leads, Body 10.3x7.5mm, Pitch 1.27mm, IPC Medium Density)
footprint ADI-RW-16_L (SOIC, 16-Leads, Body 10.3x7.5mm, Pitch 1.27mm, IPC High Density)
footprint ADI-RW-16_M (SOIC, 16-Leads, Body 10.3x7.5mm, Pitch 1.27mm, IPC Low Density)
part A pins: 1 GND1 (power) "Ground 1. Ground reference for Isolator Side 1.", 3 VDD1 (power) "Supply Voltage for Isolator Side 1, 3.0 V to 5.5 V.", 4 VIA (in) "Logic Input A.", 5 VIB (in) "Logic Input B.", 7 GND1 (power) "Ground 1. Ground reference for Isolator Side 1.", 9 GND2 (power) "Ground 2. Ground reference for Isolator Side 2.", 12 VOB (out) "Logic Output B.", 13 VOA (out) "Logic Output A.", 14 VDD2 (power) "Supply Voltage for Isolator Side 2, 3.0 V to 5.5 V.", 16 GND2 (power) "Ground 2. Ground reference for Isolator Side 2."
part B pins: 2 NC "No internal connection.", 6 NC "No internal connection.", 8 NC "No internal connection.", 10 NC "No internal connection.", 11 NC "No internal connection.", 15 NC "No internal connection."

## ADUM2210WTRWZ-RL
designator U?
Dual Channel Digital Isolator, 5 KV rms Insulation Rating, 10 Mbps Data Rate, 50 ns Delay, Industrial, 16-pin SOIC (RW-16), Reel; Manufacturer: Analog Devices; PartNumber: ADUM2210WTRWZ-RL; Automotive Qualified: Yes; Insulation Rating (kVrms): 5; Max Data Rate: 10Mbps; DatasheetVersion: Rev. D; PackageVersion: 032707-B, 03/2007; PackageReference: RW-16; PackageDescription: 16-Pin Standard Small Outline Package, Body 10.3 x 7.5 mm, Pitch 1.27 mm; Supplier 1: Digi-Key; Supplier Part Number 1: ADUM2210WTRWZ-RL-ND; Max Operating Temp (degreesC): 125; Mounting Technology: Surface Mount; Code_JEDEC: MS-013-AA; ComponentLink1Description: Manufacturer URL; ComponentLink1URL: http://www.analog.com/en/index.html; ComponentLink2Description: Datasheet; ComponentLink2URL: http://www.analog.com/static/imported-files/data_sheets/ADuM2210_2211.pdf; ComponentLink3Description: Package Specification; ComponentLink3URL: http://www.analog.com/static/imported-files/packages/PKG_PDF/SOIC_WIDE%20%28RW%29/RW_16.pdf; ComponentLink4Description: URL Link1; ComponentLink4URL: Product URL:http://www.analog.com/en/interface-isolation/digital-isolators/adum2210/products/product.html
footprint ADI-RW-16_N (SOIC, 16-Leads, Body 10.3x7.5mm, Pitch 1.27mm, IPC Medium Density)
footprint ADI-RW-16_L (SOIC, 16-Leads, Body 10.3x7.5mm, Pitch 1.27mm, IPC High Density)
footprint ADI-RW-16_M (SOIC, 16-Leads, Body 10.3x7.5mm, Pitch 1.27mm, IPC Low Density)
part A pins: 1 GND1 (power) "Ground 1. Ground reference for Isolator Side 1.", 3 VDD1 (power) "Supply Voltage for Isolator Side 1, 3.0 V to 5.5 V.", 4 VIA (in) "Logic Input A.", 5 VIB (in) "Logic Input B.", 7 GND1 (power) "Ground 1. Ground reference for Isolator Side 1.", 9 GND2 (power) "Ground 2. Ground reference for Isolator Side 2.", 12 VOB (out) "Logic Output B.", 13 VOA (out) "Logic Output A.", 14 VDD2 (power) "Supply Voltage for Isolator Side 2, 3.0 V to 5.5 V.", 16 GND2 (power) "Ground 2. Ground reference for Isolator Side 2."
part B pins: 2 NC "No internal connection.", 6 NC "No internal connection.", 8 NC "No internal connection.", 10 NC "No internal connection.", 11 NC "No internal connection.", 15 NC "No internal connection."

## ADUM2211SRIZ
designator U?
Dual Channel Digital Isolator, 5 KV rms Insulation Rating, 1 Mbps Data Rate, 150 ns Delay, Military, 16-pin SOIC (RI-16-2), Tube; Manufacturer: Analog Devices; PartNumber: ADUM2211SRIZ; Automotive Qualified: Yes; Insulation Rating (kVrms): 5; Max Data Rate: 1Mbps; DatasheetVersion: Rev. D; PackageVersion: 11-15-2011-A, 11/2012; PackageReference: RI-16-2; PackageDescription: 16-Pin Standard Small Outline Package, with Increased Creepage, Body 12.75 x 7.5 mm, Pitch 1.27 mm; Supplier 1: Digi-Key; Supplier Part Number 1: ADUM2211SRIZ-ND; Max Operating Temp (degreesC): 125; Mounting Technology: Surface Mount; Code_JEDEC: MS-013-AC; ComponentLink1Description: Manufacturer URL; ComponentLink1URL: http://www.analog.com/en/index.html; ComponentLink2Description: Datasheet; ComponentLink2URL: http://www.analog.com/static/imported-files/data_sheets/ADuM2210_2211.pdf; ComponentLink3Description: Package Specification; ComponentLink3URL: http://www.analog.com/static/imported-files/data_sheets/ADuM2280_2281_2285_2286.pdf; ComponentLink4Description: URL Link1; ComponentLink4URL: Product URL:http://www.analog.com/en/interface-isolation/digital-isolators/adum2211/products/product.html
footprint ADI-RI-16-2_N (SOIC, 16-Leads, Body 12.75x7.5mm, Pitch 1.27mm, IPC Medium Density)
footprint ADI-RI-16-2_L (SOIC, 16-Leads, Body 12.75x7.5mm, Pitch 1.27mm, IPC High Density)
footprint ADI-RI-16-2_M (SOIC, 16-Leads, Body 12.75x7.5mm, Pitch 1.27mm, IPC Low Density)
part A pins: 1 GND1 (power) "Ground 1. Ground reference for Isolator Side 1.", 3 VDD1 (power) "Supply Voltage for Isolator Side 1.", 4 VOA (out) "Logic Output A.", 5 VIB (in) "Logic Input B.", 7 GND1 (power) "Ground 1. Ground reference for Isolator Side 1.", 9 GND2 (power) "Ground 2. Ground reference for Isolator Side 2.", 12 VOB (out) "Logic Output B.", 13 VIA (in) "Logic Input A.", 14 VDD2 (power) "Supply Voltage for Isolator Side 2.", 16 GND2 (power) "Ground 2. Ground reference for Isolator Side 2."
part B pins: 2 NC "No internal connection.", 6 NC "No internal connection.", 8 NC "No internal connection.", 10 NC "No internal connection.", 11 NC "No internal connection.", 15 NC "No internal connection."

## ADUM2211SRIZ-RL
designator U?
Dual Channel Digital Isolator, 5 KV rms Insulation Rating, 1 Mbps Data Rate, 150 ns Delay, Military, 16-pin SOIC (RI-16-2), Reel; Manufacturer: Analog Devices; PartNumber: ADUM2211SRIZ-RL; Insulation Rating (kVrms): 5; Max Data Rate: 1Mbps; DatasheetVersion: Rev. D; PackageVersion: 11-15-2011-A, 11/2012; PackageReference: RI-16-2; PackageDescription: 16-Pin Standard Small Outline Package, with Increased Creepage, Body 12.75 x 7.5 mm, Pitch 1.27 mm; Supplier 1: Digi-Key; Supplier Part Number 1: ADUM2211SRIZ-RL-ND; Max Operating Temp (degreesC): 125; Mounting Technology: Surface Mount; Code_JEDEC: MS-013-AC; ComponentLink1Description: Manufacturer URL; ComponentLink1URL: http://www.analog.com/en/index.html; ComponentLink2Description: Datasheet; ComponentLink2URL: http://www.analog.com/static/imported-files/data_sheets/ADuM2210_2211.pdf; ComponentLink3Description: Package Specification; ComponentLink3URL: http://www.analog.com/static/imported-files/data_sheets/ADuM2280_2281_2285_2286.pdf; ComponentLink4Description: URL Link1; ComponentLink4URL: Product URL:http://www.analog.com/en/interface-isolation/digital-isolators/adum2211/products/product.html
footprint ADI-RI-16-2_N (SOIC, 16-Leads, Body 12.75x7.5mm, Pitch 1.27mm, IPC Medium Density)
footprint ADI-RI-16-2_L (SOIC, 16-Leads, Body 12.75x7.5mm, Pitch 1.27mm, IPC High Density)
footprint ADI-RI-16-2_M (SOIC, 16-Leads, Body 12.75x7.5mm, Pitch 1.27mm, IPC Low Density)
part A pins: 1 GND1 (power) "Ground 1. Ground reference for Isolator Side 1.", 3 VDD1 (power) "Supply Voltage for Isolator Side 1.", 4 VOA (out) "Logic Output A.", 5 VIB (in) "Logic Input B.", 7 GND1 (power) "Ground 1. Ground reference for Isolator Side 1.", 9 GND2 (power) "Ground 2. Ground reference for Isolator Side 2.", 12 VOB (out) "Logic Output B.", 13 VIA (in) "Logic Input A.", 14 VDD2 (power) "Supply Voltage for Isolator Side 2.", 16 GND2 (power) "Ground 2. Ground reference for Isolator Side 2."
part B pins: 2 NC "No internal connection.", 6 NC "No internal connection.", 8 NC "No internal connection.", 10 NC "No internal connection.", 11 NC "No internal connection.", 15 NC "No internal connection."

## ADUM2211SRWZ
designator U?
Dual Channel Digital Isolator, 5 KV rms Insulation Rating, 1 Mbps Data Rate, 150 ns Delay, Industrial, 16-pin SOIC (RW-16), Tube; Manufacturer: Analog Devices; PartNumber: ADUM2211SRWZ; Insulation Rating (kVrms): 5; Max Data Rate: 1Mbps; DatasheetVersion: Rev. D; PackageVersion: 032707-B, 03/2007; PackageReference: RW-16; PackageDescription: 16-Pin Standard Small Outline Package, Body 10.3 x 7.5 mm, Pitch 1.27 mm; Supplier 1: Digi-Key; Supplier Part Number 1: ADUM2211SRWZ-ND; Max Operating Temp (degreesC): 125; Mounting Technology: Surface Mount; Code_JEDEC: MS-013-AA; ComponentLink1Description: Manufacturer URL; ComponentLink1URL: http://www.analog.com/en/index.html; ComponentLink2Description: Datasheet; ComponentLink2URL: http://www.analog.com/static/imported-files/data_sheets/ADuM2210_2211.pdf; ComponentLink3Description: Package Specification; ComponentLink3URL: http://www.analog.com/static/imported-files/packages/PKG_PDF/SOIC_WIDE%20%28RW%29/RW_16.pdf; ComponentLink4Description: URL Link1; ComponentLink4URL: Product URL:http://www.analog.com/en/interface-isolation/digital-isolators/adum2211/products/product.html
footprint ADI-RW-16_N (SOIC, 16-Leads, Body 10.3x7.5mm, Pitch 1.27mm, IPC Medium Density)
footprint ADI-RW-16_L (SOIC, 16-Leads, Body 10.3x7.5mm, Pitch 1.27mm, IPC High Density)
footprint ADI-RW-16_M (SOIC, 16-Leads, Body 10.3x7.5mm, Pitch 1.27mm, IPC Low Density)
part A pins: 1 GND1 (power) "Ground 1. Ground reference for Isolator Side 1.", 3 VDD1 (power) "Supply Voltage for Isolator Side 1.", 4 VOA (out) "Logic Output A.", 5 VIB (in) "Logic Input B.", 7 GND1 (power) "Ground 1. Ground reference for Isolator Side 1.", 9 GND2 (power) "Ground 2. Ground reference for Isolator Side 2.", 12 VOB (out) "Logic Output B.", 13 VIA (in) "Logic Input A.", 14 VDD2 (power) "Supply Voltage for Isolator Side 2.", 16 GND2 (power) "Ground 2. Ground reference for Isolator Side 2."
part B pins: 2 NC "No internal connection.", 6 NC "No internal connection.", 8 NC "No internal connection.", 10 NC "No internal connection.", 11 NC "No internal connection.", 15 NC "No internal connection."

## ADUM2211SRWZ-RL
designator U?
Dual Channel Digital Isolator, 5 KV rms Insulation Rating, 1 Mbps Data Rate, 150 ns Delay, Industrial, 16-pin SOIC (RW-16), Reel; Manufacturer: Analog Devices; PartNumber: ADUM2211SRWZ-RL; Insulation Rating (kVrms): 5; Max Data Rate: 1Mbps; DatasheetVersion: Rev. D; PackageVersion: 032707-B, 03/2007; PackageReference: RW-16; PackageDescription: 16-Pin Standard Small Outline Package, Body 10.3 x 7.5 mm, Pitch 1.27 mm; Supplier 1: Digi-Key; Supplier Part Number 1: ADUM2211SRWZ-RL-ND; Max Operating Temp (degreesC): 125; Mounting Technology: Surface Mount; Code_JEDEC: MS-013-AA; ComponentLink1Description: Manufacturer URL; ComponentLink1URL: http://www.analog.com/en/index.html; ComponentLink2Description: Datasheet; ComponentLink2URL: http://www.analog.com/static/imported-files/data_sheets/ADuM2210_2211.pdf; ComponentLink3Description: Package Specification; ComponentLink3URL: http://www.analog.com/static/imported-files/packages/PKG_PDF/SOIC_WIDE%20%28RW%29/RW_16.pdf; ComponentLink4Description: URL Link1; ComponentLink4URL: Product URL:http://www.analog.com/en/interface-isolation/digital-isolators/adum2211/products/product.html
footprint ADI-RW-16_N (SOIC, 16-Leads, Body 10.3x7.5mm, Pitch 1.27mm, IPC Medium Density)
footprint ADI-RW-16_L (SOIC, 16-Leads, Body 10.3x7.5mm, Pitch 1.27mm, IPC High Density)
footprint ADI-RW-16_M (SOIC, 16-Leads, Body 10.3x7.5mm, Pitch 1.27mm, IPC Low Density)
part A pins: 1 GND1 (power) "Ground 1. Ground reference for Isolator Side 1.", 3 VDD1 (power) "Supply Voltage for Isolator Side 1.", 4 VOA (out) "Logic Output A.", 5 VIB (in) "Logic Input B.", 7 GND1 (power) "Ground 1. Ground reference for Isolator Side 1.", 9 GND2 (power) "Ground 2. Ground reference for Isolator Side 2.", 12 VOB (out) "Logic Output B.", 13 VIA (in) "Logic Input A.", 14 VDD2 (power) "Supply Voltage for Isolator Side 2.", 16 GND2 (power) "Ground 2. Ground reference for Isolator Side 2."
part B pins: 2 NC "No internal connection.", 6 NC "No internal connection.", 8 NC "No internal connection.", 10 NC "No internal connection.", 11 NC "No internal connection.", 15 NC "No internal connection."

## ADUM2211TRIZ
designator U?
Dual Channel Digital Isolator, 5 KV rms Insulation Rating, 10 Mbps Data Rate, 50 ns Delay, Military, 16-pin SOIC (RI-16-2), Tube; Manufacturer: Analog Devices; PartNumber: ADUM2211TRIZ; Insulation Rating (kVrms): 5; Max Data Rate: 10Mbps; DatasheetVersion: Rev. D; PackageVersion: 11-15-2011-A, 11/2012; PackageReference: RI-16-2; PackageDescription: 16-Pin Standard Small Outline Package, with Increased Creepage, Body 12.75 x 7.5 mm, Pitch 1.27 mm; Supplier 1: Digi-Key; Supplier Part Number 1: ADUM2211TRIZ-ND; Max Operating Temp (degreesC): 125; Mounting Technology: Surface Mount; Code_JEDEC: MS-013-AC; ComponentLink1Description: Manufacturer URL; ComponentLink1URL: http://www.analog.com/en/index.html; ComponentLink2Description: Datasheet; ComponentLink2URL: http://www.analog.com/static/imported-files/data_sheets/ADuM2210_2211.pdf; ComponentLink3Description: Package Specification; ComponentLink3URL: http://www.analog.com/static/imported-files/data_sheets/ADuM2280_2281_2285_2286.pdf; ComponentLink4Description: URL Link1; ComponentLink4URL: Product URL:http://www.analog.com/en/interface-isolation/digital-isolators/adum2211/products/product.html
footprint ADI-RI-16-2_N (SOIC, 16-Leads, Body 12.75x7.5mm, Pitch 1.27mm, IPC Medium Density)
footprint ADI-RI-16-2_L (SOIC, 16-Leads, Body 12.75x7.5mm, Pitch 1.27mm, IPC High Density)
footprint ADI-RI-16-2_M (SOIC, 16-Leads, Body 12.75x7.5mm, Pitch 1.27mm, IPC Low Density)
part A pins: 1 GND1 (power) "Ground 1. Ground reference for Isolator Side 1.", 3 VDD1 (power) "Supply Voltage for Isolator Side 1.", 4 VOA (out) "Logic Output A.", 5 VIB (in) "Logic Input B.", 7 GND1 (power) "Ground 1. Ground reference for Isolator Side 1.", 9 GND2 (power) "Ground 2. Ground reference for Isolator Side 2.", 12 VOB (out) "Logic Output B.", 13 VIA (in) "Logic Input A.", 14 VDD2 (power) "Supply Voltage for Isolator Side 2.", 16 GND2 (power) "Ground 2. Ground reference for Isolator Side 2."
part B pins: 2 NC "No internal connection.", 6 NC "No internal connection.", 8 NC "No internal connection.", 10 NC "No internal connection.", 11 NC "No internal connection.", 15 NC "No internal connection."

## ADUM2211TRIZ-RL
designator U?
Dual Channel Digital Isolator, 5 KV rms Insulation Rating, 10 Mbps Data Rate, 50 ns Delay, Military, 16-pin SOIC (RI-16-2), Reel; Manufacturer: Analog Devices; PartNumber: ADUM2211TRIZ-RL; Insulation Rating (kVrms): 5; Max Data Rate: 10Mbps; DatasheetVersion: Rev. D; PackageVersion: 11-15-2011-A, 11/2012; PackageReference: RI-16-2; PackageDescription: 16-Pin Standard Small Outline Package, with Increased Creepage, Body 12.75 x 7.5 mm, Pitch 1.27 mm; Supplier 1: Digi-Key; Supplier Part Number 1: ADUM2211TRIZ-RL-ND; Max Operating Temp (degreesC): 125; Mounting Technology: Surface Mount; Code_JEDEC: MS-013-AC; ComponentLink1Description: Manufacturer URL; ComponentLink1URL: http://www.analog.com/en/index.html; ComponentLink2Description: Datasheet; ComponentLink2URL: http://www.analog.com/static/imported-files/data_sheets/ADuM2210_2211.pdf; ComponentLink3Description: Package Specification; ComponentLink3URL: http://www.analog.com/static/imported-files/data_sheets/ADuM2280_2281_2285_2286.pdf; ComponentLink4Description: URL Link1; ComponentLink4URL: Product URL:http://www.analog.com/en/interface-isolation/digital-isolators/adum2211/products/product.html
footprint ADI-RI-16-2_N (SOIC, 16-Leads, Body 12.75x7.5mm, Pitch 1.27mm, IPC Medium Density)
footprint ADI-RI-16-2_L (SOIC, 16-Leads, Body 12.75x7.5mm, Pitch 1.27mm, IPC High Density)
footprint ADI-RI-16-2_M (SOIC, 16-Leads, Body 12.75x7.5mm, Pitch 1.27mm, IPC Low Density)
part A pins: 1 GND1 (power) "Ground 1. Ground reference for Isolator Side 1.", 3 VDD1 (power) "Supply Voltage for Isolator Side 1.", 4 VOA (out) "Logic Output A.", 5 VIB (in) "Logic Input B.", 7 GND1 (power) "Ground 1. Ground reference for Isolator Side 1.", 9 GND2 (power) "Ground 2. Ground reference for Isolator Side 2.", 12 VOB (out) "Logic Output B.", 13 VIA (in) "Logic Input A.", 14 VDD2 (power) "Supply Voltage for Isolator Side 2.", 16 GND2 (power) "Ground 2. Ground reference for Isolator Side 2."
part B pins: 2 NC "No internal connection.", 6 NC "No internal connection.", 8 NC "No internal connection.", 10 NC "No internal connection.", 11 NC "No internal connection.", 15 NC "No internal connection."

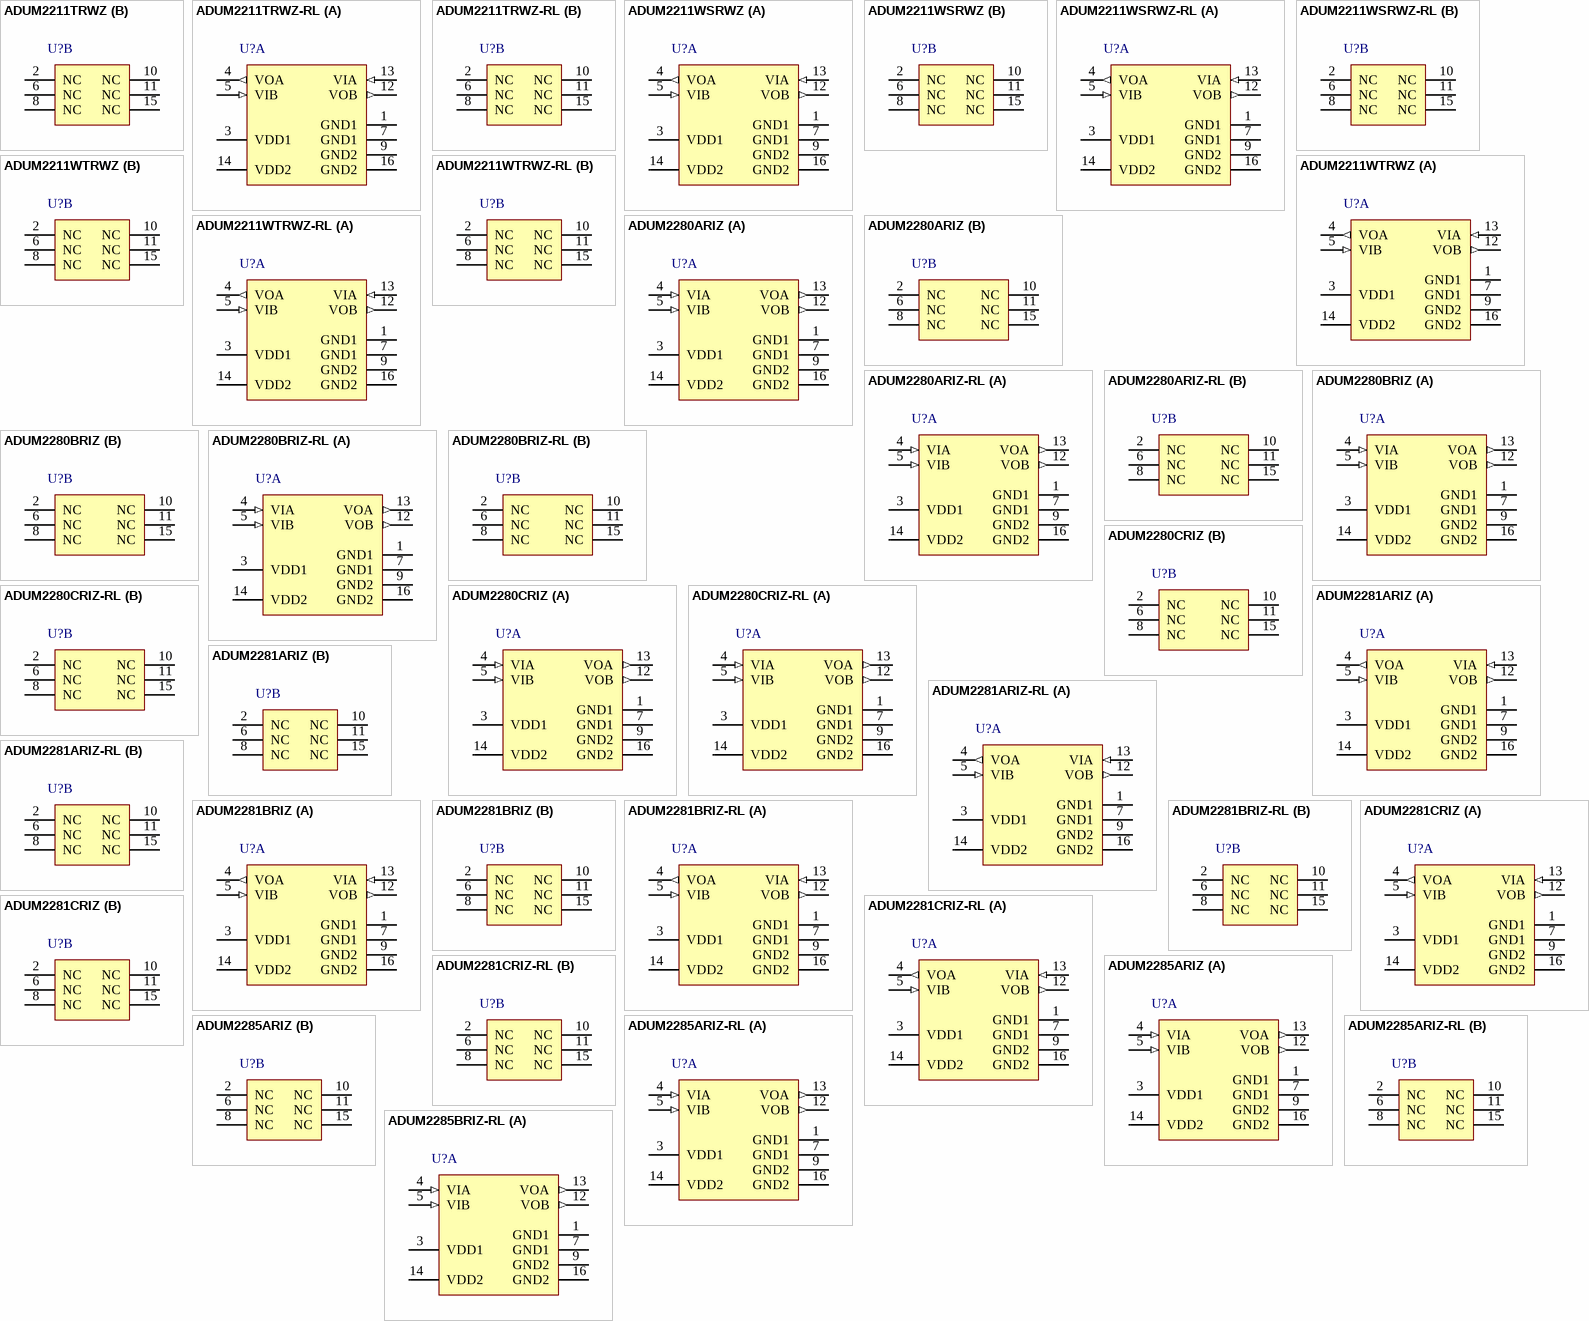
[diagram p6: symbols ADUM2211TRWZ to ADUM2285BRIZ-RL]

## ADUM2211TRWZ
designator U?
Dual Channel Digital Isolator, 5 KV rms Insulation Rating, 10 Mbps Data Rate, 50 ns Delay, Industrial, 16-pin SOIC (RW-16), Tube; Manufacturer: Analog Devices; PartNumber: ADUM2211TRWZ; Insulation Rating (kVrms): 5; Max Data Rate: 10Mbps; DatasheetVersion: Rev. D; PackageVersion: 032707-B, 03/2007; PackageReference: RW-16; PackageDescription: 16-Pin Standard Small Outline Package, Body 10.3 x 7.5 mm, Pitch 1.27 mm; Supplier 1: Digi-Key; Supplier Part Number 1: ADUM2211TRWZ-ND; Max Operating Temp (degreesC): 125; Mounting Technology: Surface Mount; Code_JEDEC: MS-013-AA; ComponentLink1Description: Manufacturer URL; ComponentLink1URL: http://www.analog.com/en/index.html; ComponentLink2Description: Datasheet; ComponentLink2URL: http://www.analog.com/static/imported-files/data_sheets/ADuM2210_2211.pdf; ComponentLink3Description: Package Specification; ComponentLink3URL: http://www.analog.com/static/imported-files/packages/PKG_PDF/SOIC_WIDE%20%28RW%29/RW_16.pdf; ComponentLink4Description: URL Link1; ComponentLink4URL: Product URL:http://www.analog.com/en/interface-isolation/digital-isolators/adum2211/products/product.html
footprint ADI-RW-16_N (SOIC, 16-Leads, Body 10.3x7.5mm, Pitch 1.27mm, IPC Medium Density)
footprint ADI-RW-16_L (SOIC, 16-Leads, Body 10.3x7.5mm, Pitch 1.27mm, IPC High Density)
footprint ADI-RW-16_M (SOIC, 16-Leads, Body 10.3x7.5mm, Pitch 1.27mm, IPC Low Density)
part A pins: 1 GND1 (power) "Ground 1. Ground reference for Isolator Side 1.", 3 VDD1 (power) "Supply Voltage for Isolator Side 1.", 4 VOA (out) "Logic Output A.", 5 VIB (in) "Logic Input B.", 7 GND1 (power) "Ground 1. Ground reference for Isolator Side 1.", 9 GND2 (power) "Ground 2. Ground reference for Isolator Side 2.", 12 VOB (out) "Logic Output B.", 13 VIA (in) "Logic Input A.", 14 VDD2 (power) "Supply Voltage for Isolator Side 2.", 16 GND2 (power) "Ground 2. Ground reference for Isolator Side 2."
part B pins: 2 NC "No internal connection.", 6 NC "No internal connection.", 8 NC "No internal connection.", 10 NC "No internal connection.", 11 NC "No internal connection.", 15 NC "No internal connection."